# EAGLE library part STA335BW (library Audio-Power-amlifier V.2.0)
The STA335BW is an integration of digital audio processing, digital amplifier control and DDX® power-output stage to create a high-power single-chip DDX solution comprising high-quality, high-efficiency and all digital amplification. The STA335BW is part of the Sound Terminal™ family that provides full digital audio streaming to the speaker offering cost effectiveness, low energy dissipation and sound enrichment. The STA335BW power section consists of four independent half-bridges. These can be configured via digital control to operate in different modes. 2.1 channels can be provided by two half-bridges and a single full-bridge, providing up to 2 x 9 W + 1 x 20 W of power output. Two channels can be provided by two full-bridges, providing up to 2 x 37 W of power. The IC can also be configured as 2.1 channels with 2 x 30 W provided by the device and external power for DDX® power drive.
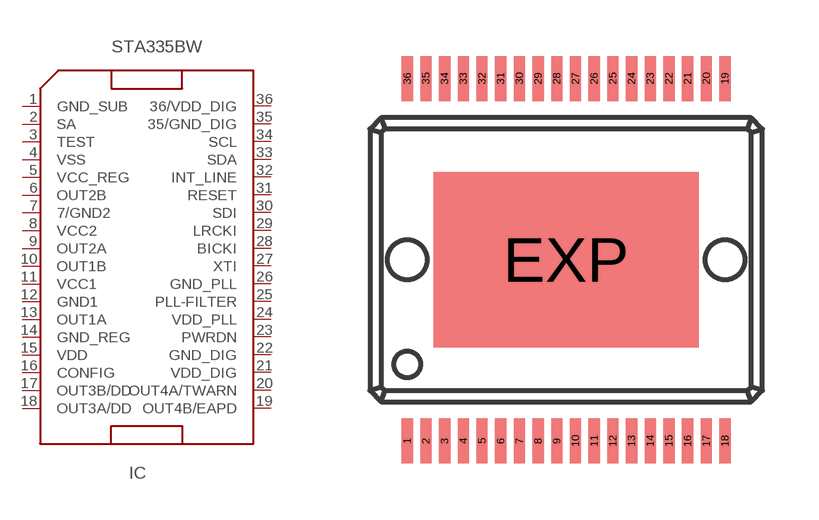
[diagram p94: symbol with the pads of PSSO-36SD; footprint PSSO-36SD]

Designator prefix IC

## STA335BW  [PSSO-36SD]
1  GND_SUB  pwr
2  SA  in
3  TEST  in
4  VSS
5  VCC_REG
6  OUT2B  out
7  7/GND2  pwr
8  VCC2  pwr
9  OUT2A  out
10  OUT1B  out
11  VCC1  pwr
12  GND1  pwr
13  OUT1A
14  GND_REG  pwr
15  VDD  pwr
16  CONFIG  in
17  OUT3B/DD  out
18  OUT3A/DD  out
19  OUT4B/EAPD  out
20  OUT4A/TWARN  in
21  VDD_DIG  pwr
22  GND_DIG  pwr
23  PWRDN  in
24  VDD_PLL  pwr
25  PLL-FILTER  in
26  GND_PLL  pwr
27  XTI  in
28  BICKI  in
29  LRCKI  in
30  SDI  in
31  RESET  in
32  INT_LINE  out
33  SDA
34  SCL  in
35  35/GND_DIG  pwr
36  36/VDD_DIG  pwr

## Footprint PSSO-36SD (pad centres in mm)
PowerSSO-36 slug down package
smd 0.3 x 1.2: 1 -4.25,-4.85; 2 -3.75,-4.85; 3 -3.25,-4.85; 4 -2.75,-4.85; 5 -2.25,-4.85; 6 -1.75,-4.85; 7 -1.25,-4.85; 8 -0.75,-4.85; 9 -0.25,-4.85; 10 0.25,-4.85; 11 0.75,-4.85; 12 1.25,-4.85; 13 1.75,-4.85; 14 2.25,-4.85; 15 2.75,-4.85; 16 3.25,-4.85; 17 3.75,-4.85; 18 4.25,-4.85; 19 4.25,4.85; 20 3.75,4.85; 21 3.25,4.85; 22 2.75,4.85; 23 2.25,4.85; 24 1.75,4.85; 25 1.25,4.85; 26 0.75,4.85; 27 0.25,4.85; 28 -0.25,4.85; 29 -0.75,4.85; 30 -1.25,4.85; 31 -1.75,4.85; 32 -2.25,4.85; 33 -2.75,4.85; 34 -3.25,4.85; 35 -3.75,4.85; 36 -4.25,4.85
smd 7.1 x 4.7: EXP 0,0